# EAGLE library part SAMTEC-HPF-16-01 (library Traficon)
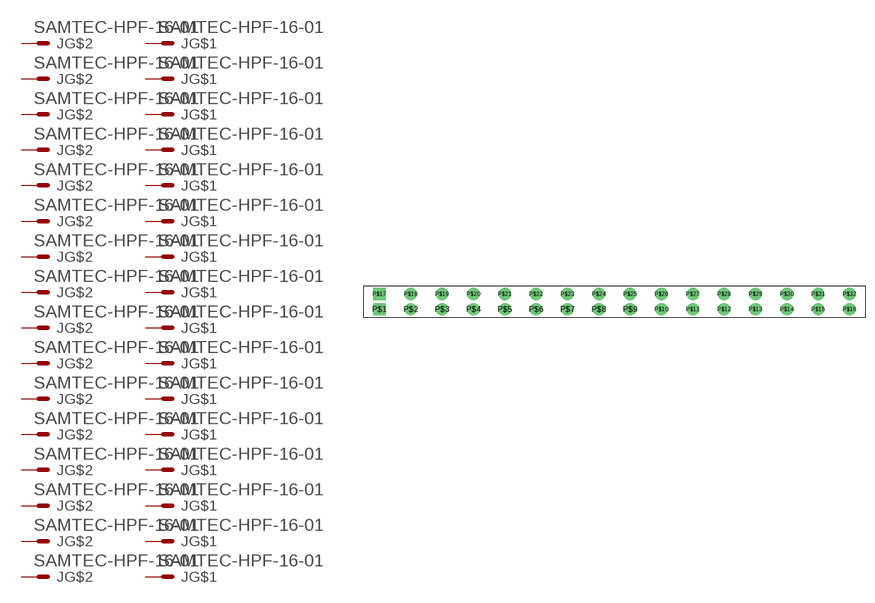
[diagram p221: symbol with the pads of SAMTEC-HPF-16-01; footprint SAMTEC-HPF-16-01]

Designator prefix J; gates G$1=MOLEX-10-08-XXXX(HEADER1X16-5.08MM) G$2=MOLEX-10-08-XXXX(HEADER1X16-5.08MM)

## SAMTEC-HPF-16-01  [SAMTEC-HPF-16-01]
P$1  G$1:S  pas
P$2  G$1:S1  pas
P$3  G$1:S2  pas
P$4  G$1:S3  pas
P$5  G$1:S4  pas
P$6  G$1:S5  pas
P$7  G$1:S6  pas
P$8  G$1:S7  pas
P$9  G$1:S8  pas
P$10  G$1:S9  pas
P$11  G$1:S10  pas
P$12  G$1:S11  pas
P$13  G$1:S12  pas
P$14  G$1:S13  pas
P$15  G$1:S14  pas
P$16  G$1:S15  pas
P$17  G$2:S  pas
P$18  G$2:S1  pas
P$19  G$2:S2  pas
P$20  G$2:S3  pas
P$21  G$2:S4  pas
P$22  G$2:S5  pas
P$23  G$2:S6  pas
P$24  G$2:S7  pas
P$25  G$2:S8  pas
P$26  G$2:S9  pas
P$27  G$2:S10  pas
P$28  G$2:S11  pas
P$29  G$2:S12  pas
P$30  G$2:S13  pas
P$31  G$2:S14  pas
P$32  G$2:S15  pas

## Footprint SAMTEC-HPF-16-01 (pad centres in mm)
drill 1.346 square: P$1 -38.1,-1.27; P$17 -38.1,1.194
drill 1.346 round: P$2 -33.02,-1.27; P$3 -27.94,-1.27; P$4 -22.86,-1.27; P$5 -17.78,-1.27; P$6 -12.7,-1.27; P$7 -7.62,-1.27; P$8 -2.54,-1.27; P$9 2.54,-1.27; P$10 7.62,-1.27; P$11 12.7,-1.27; P$12 17.78,-1.27; P$13 22.86,-1.27; P$14 27.94,-1.27; P$15 33.02,-1.27; P$16 38.1,-1.27; P$18 -33.02,1.194; P$19 -27.94,1.194; P$20 -22.86,1.194; P$21 -17.78,1.194; P$22 -12.7,1.194; P$23 -7.62,1.194; P$24 -2.54,1.194; P$25 2.54,1.194; P$26 7.62,1.194; P$27 12.7,1.194; P$28 17.78,1.194; P$29 22.86,1.194; P$30 27.94,1.194; P$31 33.02,1.194; P$32 38.1,1.194